# Altium integrated library LD1117S50CTR.IntLib: 1 symbol
Pins are listed as number, name and electrical type; pins without a type are passive.

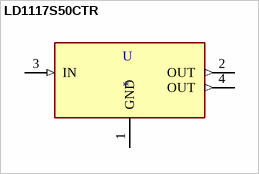
[diagram p0: symbol LD1117S50CTR]

## LD1117S50CTR
designator U
Linear Voltage Regulator IC 1 Output 800mA SOT-223; MF: STMicroelectronics; MP: LD1117S50CTR; Price: None; Value: *; Package: SOT-223 STMicroelectronics; SnapEDA_Link: https://www.snapeda.com/parts/LD1117S50CTR/STMicroelectronics/view-part/480413/?ref=snap; Availability: Unavailable
footprint SOT223
pins: 1 GND, 2 OUT (out), 3 IN (in), 4 OUT (out)